# Altium footprint library 4-PLCC_LED.PcbLib: 1 footprints
Each footprint in its own frame and in the unit in brackets; x right, y up, seen from the top. Pads: shape width x height; smd on the part's side, far side on the other; paste and mask are expansions set on the pad; w line width, h text height; cw(c..) or ccw(c..) is an arc to the next point about the centre after c.
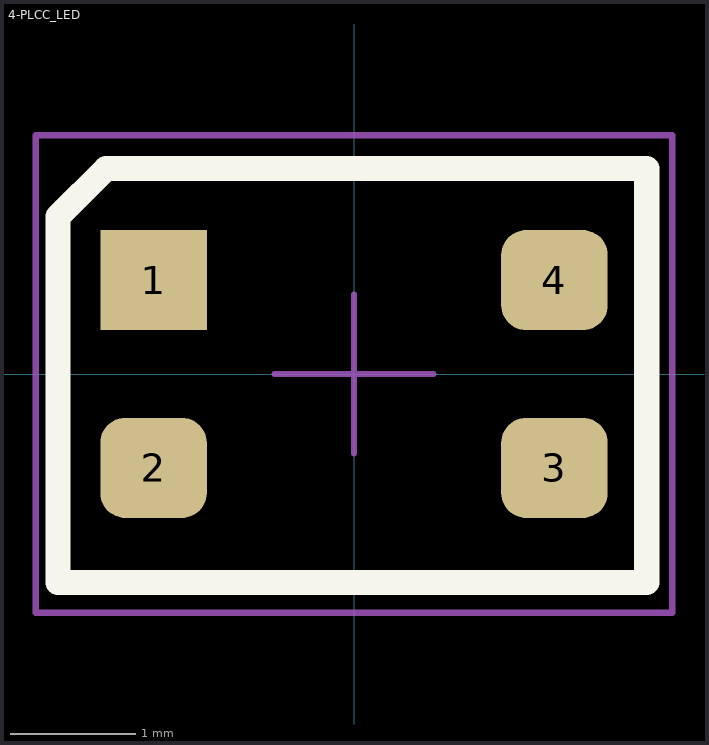
[diagram p0: the footprint, top view; thin cyan lines are the x and y axes]

## 4-PLCC_LED [mm] "LED PLCC 4-PIN 3.2x2.8mm"
height 2
pads (4):
  rect 0.85x0.8 smd: 1(-1.6,0.75)
  rrect50% 0.85x0.8 smd: 2(-1.6,-0.75) 3(1.6,-0.75) 4(1.6,0.75)
Top Overlay:
  lines w0.2: -2.362,-1.663 2.337,-1.663 2.337,1.639 -1.981,1.639 -2.362,1.258 -2.362,-1.663
Mechanical 15:
  lines w0.05: -0.635,0 0.635,0 ; 0,-0.635 0,0.635 ; -2.54,-1.905 -2.54,1.905 2.54,1.905 2.54,-1.905 -2.54,-1.905
3D body: height 2, standoff 0.1, extent -1.6,-1.4 1.6,1.4
3D body: height 2.05, standoff 2, extent -0.992,-0.998 1,0.998